# EAGLE library part LT1206 (library 1A-meinLib)
LT1206, 250mA/60MHz Current Feedback Amplifier, Linear Technology
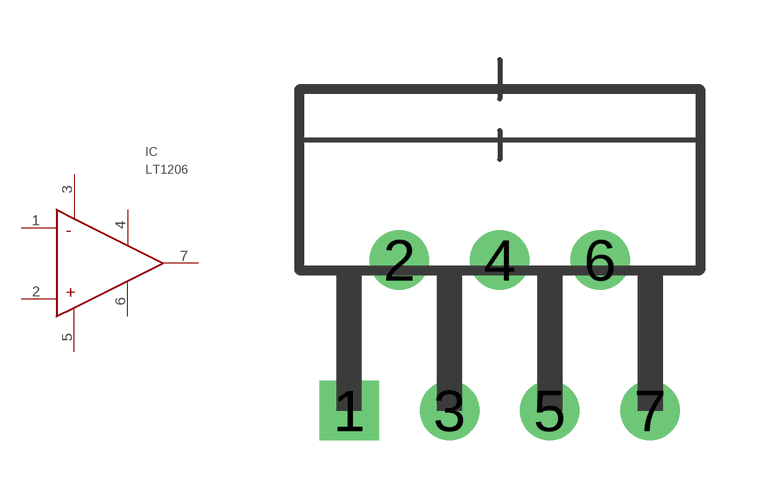
[diagram p180: symbol with the pads of TO220-T7; footprint TO220-T7]

Designator prefix IC

## LT1206  [TO220-T7]
1  -IN  in
2  +IN  in
3  S/D  pas
4  V+  pwr
5  COMP  pas
6  V-  pwr
7  OUT  out

## Footprint TO220-T7 (pad centres in mm)
drill 1 square: 1 -3.81,-3.81
drill 1 round: 2 -2.54,0; 3 -1.27,-3.81; 4 0,0; 5 1.27,-3.81; 6 2.54,0; 7 3.81,-3.81